# Altium schematic symbol library NPN.Schlib: 1 symbol
Pins are listed as number, name and electrical type; pins without a type are passive.

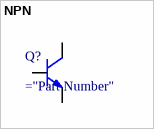
[diagram p0: symbol NPN]

## NPN
designator Q?
npn Transistor
pins: B, C, E